# EAGLE library part SHT3X.DIS (library sensirion)
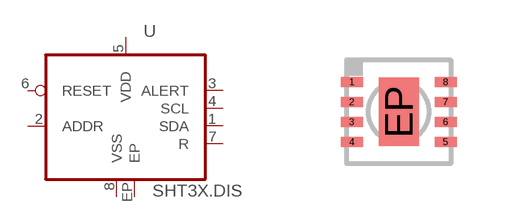
[diagram p0: symbol with the pads of DFN8-SENSIRION; footprint DFN8-SENSIRION]

Designator prefix U

## SHT3X.DIS  [DFN8-SENSIRION]
1  SDA
2  ADDR
3  ALERT
4  SCL
5  VDD  pwr
6  RESET  in
7  R
8  VSS  pwr
EP  EP  pwr

## Footprint DFN8-SENSIRION (pad centres in mm)
smd 0.55 x 0.25: 1 -1.175,0.75; 2 -1.175,0.25; 3 -1.175,-0.25; 4 -1.175,-0.75; 5 1.175,-0.75; 6 1.175,-0.25; 7 1.175,0.25; 8 1.175,0.75
smd 1 x 1.7: EP 0,0